# Altium footprint library C_R6.3x11x2.5.PcbLib: 1 footprints
Each footprint in its own frame and in the unit in brackets; x right, y up, seen from the top. Pads: shape width x height; smd on the part's side, far side on the other; paste and mask are expansions set on the pad; w line width, h text height; cw(c..) or ccw(c..) is an arc to the next point about the centre after c.
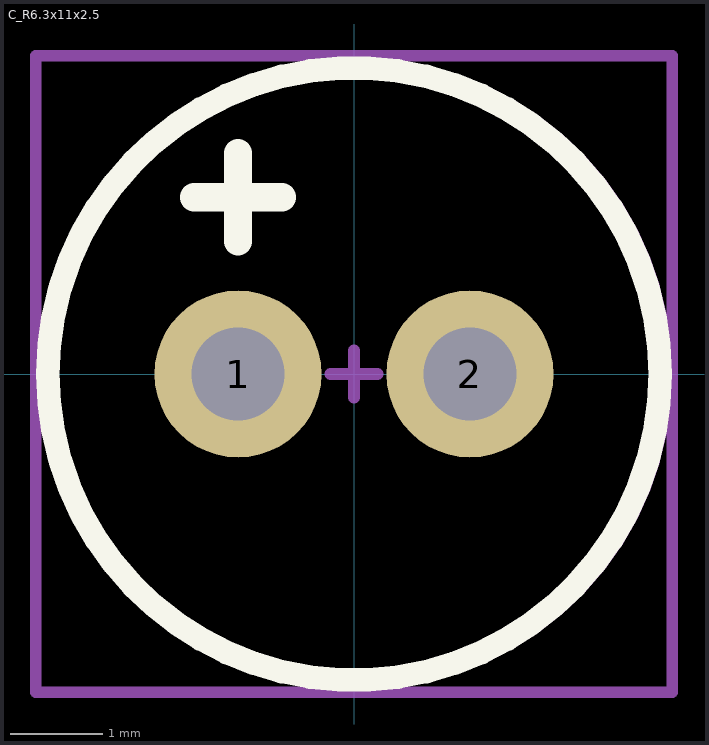
[diagram p0: the footprint, top view; thin cyan lines are the x and y axes]

## C_R6.3x11x2.5 [mm]
pads (2):
  round 1.8 hole 1: 1(-1.25,0) 2(1.25,0)
Top Overlay:
  circle w0.254: c0,0 r3.3
  lines w0.305: -1.725,1.905 -0.775,1.905 ; -1.25,1.43 -1.25,2.38
Top Assembly:
  lines w0.127: 3.367,0 ccw(c0.02,0) 3.367,0
Top Courtyard:
  lines w0.127: -0.254,0 0.254,0 ; 0,-0.254 0,0.254 ; -3.429,-3.429 -3.429,3.429 3.429,3.429 3.429,-3.429 -3.429,-3.429
3D body "User Library-CapAluRadial_D63H110.STEP": height 12.5, standoff -3, extent -3.38,-3.399 3.42,3.399